# Altium schematic symbol library Conn_Molex_47491-0001_eec.SchLib: 1 symbol
Pins are listed as number, name and electrical type; pins without a type are passive.

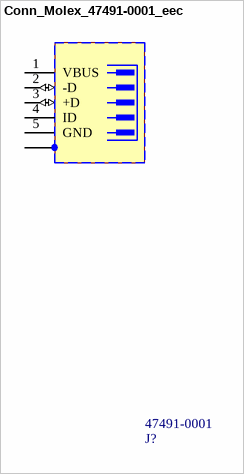
[diagram p0: symbol Conn_Molex_47491-0001_eec]

## Conn_Molex_47491-0001_eec
designator J?  Manufacturer Part Number: 47491-0001
CONN RCPT 5POS MICRO USB R/A; Manufacturer: Molex; Is Female: yes; helpURL: https://upverter.com/upn/revision/f866fe3250cf79e5/; ComponentLink2Description: Datasheet; Temperature: -30°C to +85°C; Package: SMT_USB_11MM00_9MM13; Supplier 2: Mouser; Supplier 1: Digi-Key; ComponentLink1URL: https://upverter.com/upn/revision/f866fe3250cf79e5/; Supplier Part Number 2: 538-47491-0001; Supplier Part Number 1: WM17142CT-ND; ComponentLink1Description: Upverter; ComponentLink2URL: http://www.molex.com/pdm_docs/sd/474910001_sd.pdf; RoHS: TRUE; Mouser Part Number: 538-47491-0001; Temperature Range High: +85°C; Digikey Description: CONN RCPT 5POS MICRO USB R/A; Digikey Part Number: WM17142CT-ND; Lead Free: yes; Temperature Range Low: -30°C
footprint Molex_47491-0001_0
pins: 1 VBUS (power), 2 -D (io), 3 +D (io), 4 ID, 5 GND (power), 6 SH (power), 7 MNT 2, 8 MNT 3, 9 MNT 4, 10 MNT 5, 11 MNT 6